# EAGLE library part LM393 (library SPCoast)
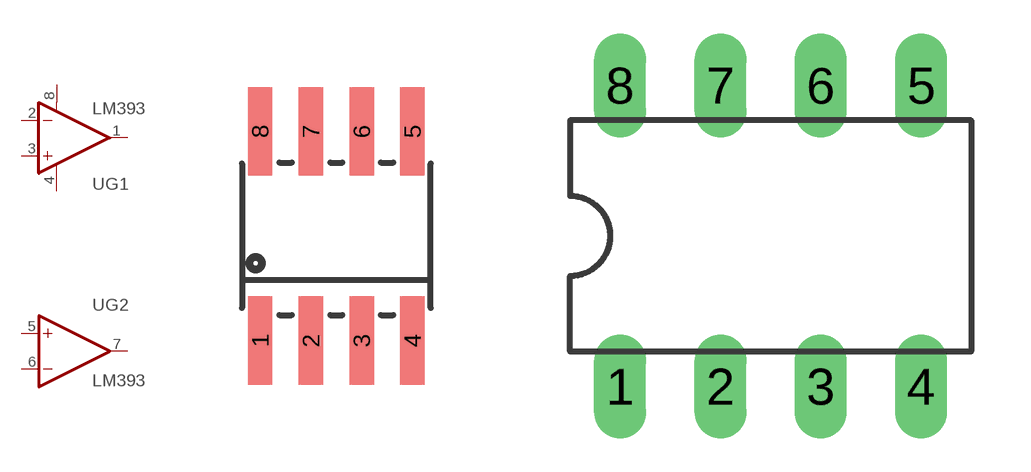
[diagram p12: symbol with the pads of SO08; footprints SO08, DIL08]

Designator prefix U; gates G1=OP-AMP+- G2=OP-AMP

## LM393M  [SO08]
1  G1:OUT  out
2  G1:-IN  in
3  G1:+IN  in
4  G1:V-  pwr
5  G2:+IN  in
6  G2:-IN  in
7  G2:OUT  out
8  G1:V+  pwr

## LM393N  [DIL08]
Pads as for SO08

## Footprint SO08 (pad centres in mm)
Small Outline Package (narrow SOIC-8)
smd 0.61 x 2.21: 1 -1.905,-2.616; 2 -0.635,-2.616; 3 0.635,-2.616; 4 1.905,-2.616; 5 1.905,2.616; 6 0.635,2.616; 7 -0.635,2.616; 8 -1.905,2.616

## Footprint DIL08 (pad centres in mm)
Standard 8-pin DIP Packaging
drill 0.813 long: 1 -3.81,-3.81; 2 -1.27,-3.81; 3 1.27,-3.81; 4 3.81,-3.81; 5 3.81,3.81; 6 1.27,3.81; 7 -1.27,3.81; 8 -3.81,3.81